# Altium footprint library ATF132PBM03.PcbLib: 1 footprints
Each footprint in its own frame and in the unit in brackets; x right, y up, seen from the top. Pads: shape width x height; smd on the part's side, far side on the other; paste and mask are expansions set on the pad; w line width, h text height; cw(c..) or ccw(c..) is an arc to the next point about the centre after c.
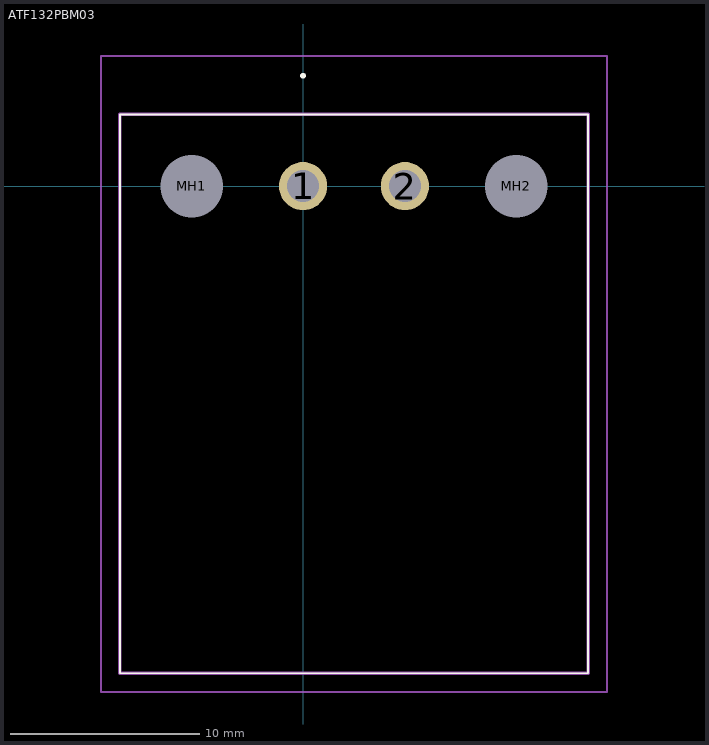
[diagram p0: the footprint, top view; thin cyan lines are the x and y axes]

## ATF132PBM03 [mm]
pads (4):
  round 2.55 hole 1.7: 1(0,0) 2(5.4,0)
  round 1.65 hole 3.3 unplated: MH1(-5.885,0) MH2(11.285,0)
Top Overlay:
  lines w0.1: -9.7,-25.8 15.1,-25.8 15.1,3.8 -9.7,3.8 -9.7,-25.8
  lines w0.2: 0,5.8 0,5.8 ; 0,5.8 ccw(c0,5.85) 0,5.9 ; 0,5.8 cw(c0,5.85) 0,5.9 ; 0,5.8 0,5.8 ; 0,5.8 ccw(c0,5.85) 0,5.9 ; 0,5.9 0,5.9
Mechanical 15:
  lines w0.2: -9.7,-25.8 15.1,-25.8 15.1,3.8 -9.7,3.8 -9.7,-25.8
Mechanical 20:
  lines w0.1: -10.7,-26.8 16.1,-26.8 16.1,6.9 -10.7,6.9 -10.7,-26.8